# Altium schematic symbol library CE201210-2N2D.SchLib: 1 symbol
Pins are listed as number, name and electrical type; pins without a type are passive.

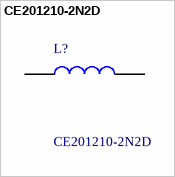
[diagram p0: symbol CE201210-2N2D]

## CE201210-2N2D
designator L?
Fixed Inductors 2.2nH .3% .85mm Multi Layer; Manufacturer_Name: Bourns; Geometry.Height: 1.03mm; Mouser Part Number: 652-CE201210-2N2D; Mouser Price/Stock: https://www.mouser.com/Search/Refine.aspx?Keyword=652-CE201210-2N2D; Manufacturer_Part_Number: CE201210-2N2D; Datasheet Link: https://componentsearchengine.com/Datasheets/1/CE201210-2N2D.pdf
footprint INDC2012X103N
pins: 1, 2